# EAGLE library part MDBT42Q (library BLE)
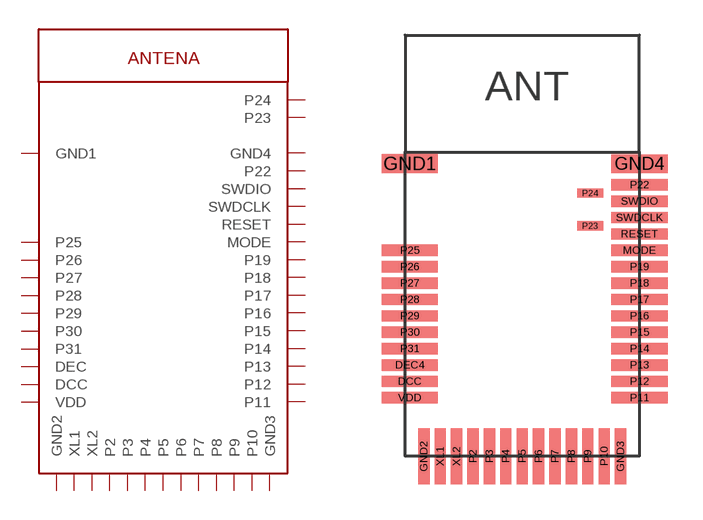
[diagram p0: symbol with the pads of MDBT42Q; footprint MDBT42Q]

Designator prefix -

## MDBT42Q  [MDBT42Q]
DCC  DCC
DEC4  DEC
GND1  GND1
GND2  GND2
GND3  GND3
GND4  GND4
MODE  MODE
P2  P2
P3  P3
P4  P4
P5  P5
P6  P6
P7  P7
P8  P8
P9  P9
P10  P10
P11  P11
P12  P12
P13  P13
P14  P14
P15  P15
P16  P16
P17  P17
P18  P18
P19  P19
P22  P22
P23  P23
P24  P24
P25  P25
P26  P26
P27  P27
P28  P28
P29  P29
P30  P30
P31  P31
RESET  RESET
SWDCLK  SWDCLK
SWDIO  SWDIO
VDD  VDD
XL1  XL1
XL2  XL2

## Footprint MDBT42Q (pad centres in mm)
smd 2.4 x 0.483: DCC 0.197,3.2; DEC4 0.197,3.9; MODE 10.003,8.8; P11 10.003,2.5; P12 10.003,3.2; P13 10.003,3.9; P14 10.003,4.6; P15 10.003,5.3; P16 10.003,6; P17 10.003,6.7; P18 10.003,7.4; P19 10.003,8.1; P22 10.003,11.6; P25 0.197,8.8; P26 0.197,8.1; P27 0.197,7.4; P28 0.197,6.7; P29 0.197,6; P30 0.197,5.3; P31 0.197,4.6; RESET 10.003,9.5; SWDCLK 10.003,10.2; SWDIO 10.003,10.9; VDD 0.197,2.5
smd 2.4 x 0.813: GND1 0.197,12.5
smd 0.483 x 2.4: GND2 0.8,-0.003; GND3 9.2,-0.003; P2 2.9,-0.003; P3 3.6,-0.003; P4 4.3,-0.003; P5 5,-0.003; P6 5.7,-0.003; P7 6.4,-0.003; P8 7.1,-0.003; P9 7.8,-0.003; P10 8.5,-0.003; XL1 1.5,-0.003; XL2 2.2,-0.003
smd 2.4 x 0.787: GND4 10.003,12.5
smd 1.1 x 0.4: P23 7.9,9.85; P24 7.9,11.25